# EAGLE library part AD5693R (library lpatiny)
The AD5693R/AD5692R/AD5691R/AD5693, members of the nanoDAC+® family, are low power, single-channel, 16-/14-/ 12-bit buffered voltage output DACs. The devices, except the AD5693, include an enabled by default internal 2.5 V reference, offering 2 ppm/°C drift. The output span can be programmed to be 0 V to V REF or 0 V to 2 × V REF . All devices operate from a single 2.7 V to 5.5 V supply and are guaranteed monotonic by design. The devices are available in a 2.00 mm × 2.00 mm, 8-lead LFCSP or a 10-lead MSOP.
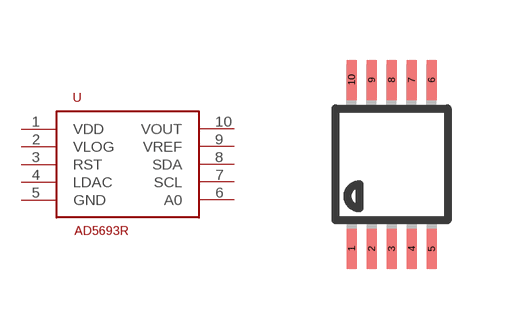
[diagram p29: symbol with the pads of MSOP10; footprint MSOP10]

Designator prefix -

## AD5693R  [MSOP10]
1  VDD
2  VLOG
3  RST
4  LDAC
5  GND
6  A0
7  SCL
8  SDA
9  VREF
10  VOUT

## Footprint MSOP10 (pad centres in mm)
smd 0.25 x 1: 1 -1,-2.113; 2 -0.5,-2.113; 3 0,-2.113; 4 0.5,-2.113; 5 1,-2.113; 6 1,2.113; 7 0.5,2.113; 8 0,2.113; 9 -0.5,2.113; 10 -1,2.113